# Altium integrated library OKL2-T.IntLib: 1 symbol
Pins are listed as number, name and electrical type; pins without a type are passive.

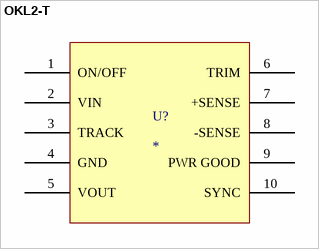
[diagram p0: symbol OKL2-T]

## OKL2-T
designator U?
footprint OKL2-T/20-W12
pins: 1 ON/OFF, 2 VIN, 3 TRACK, 4 GND, 5 VOUT, 6 TRIM, 7 +SENSE, 8 -SENSE, 9 PWR GOOD, 10 SYNC